# Altium footprint library 震动传感器.PcbLib: 1 footprints
Each footprint in its own frame and in the unit in brackets; x right, y up, seen from the top. Pads: shape width x height; smd on the part's side, far side on the other; paste and mask are expansions set on the pad; w line width, h text height; cw(c..) or ccw(c..) is an arc to the next point about the centre after c.
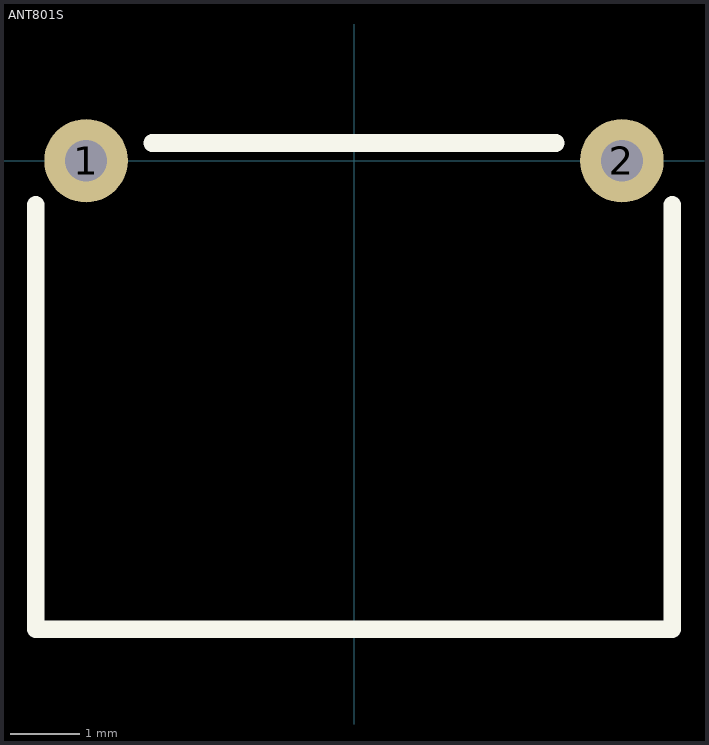
[diagram p0: the footprint, top view; thin cyan lines are the x and y axes]

## ANT801S [mm] "震动传感器"
pads (2):
  round 1.2 hole 0.6: 1(-3.85,0) 2(3.85,0)
Top Overlay:
  lines w0.254: -4.572,-0.635 -4.572,-6.731 4.572,-6.731 4.572,-0.635 ; -2.9,0.254 2.9,0.254
3D body "ant801s1.sldprt": height 7.5, standoff -1.5, extent -4.575,-6.746 4.575,0.254